# Altium footprint library smartcar_lib.PcbLib: 126 footprints (part 1 of 8)
Each footprint in its own frame and in the unit in brackets; x right, y up, seen from the top. Pads: shape width x height; smd on the part's side, far side on the other; paste and mask are expansions set on the pad; w line width, h text height; cw(c..) or ccw(c..) is an arc to the next point about the centre after c.
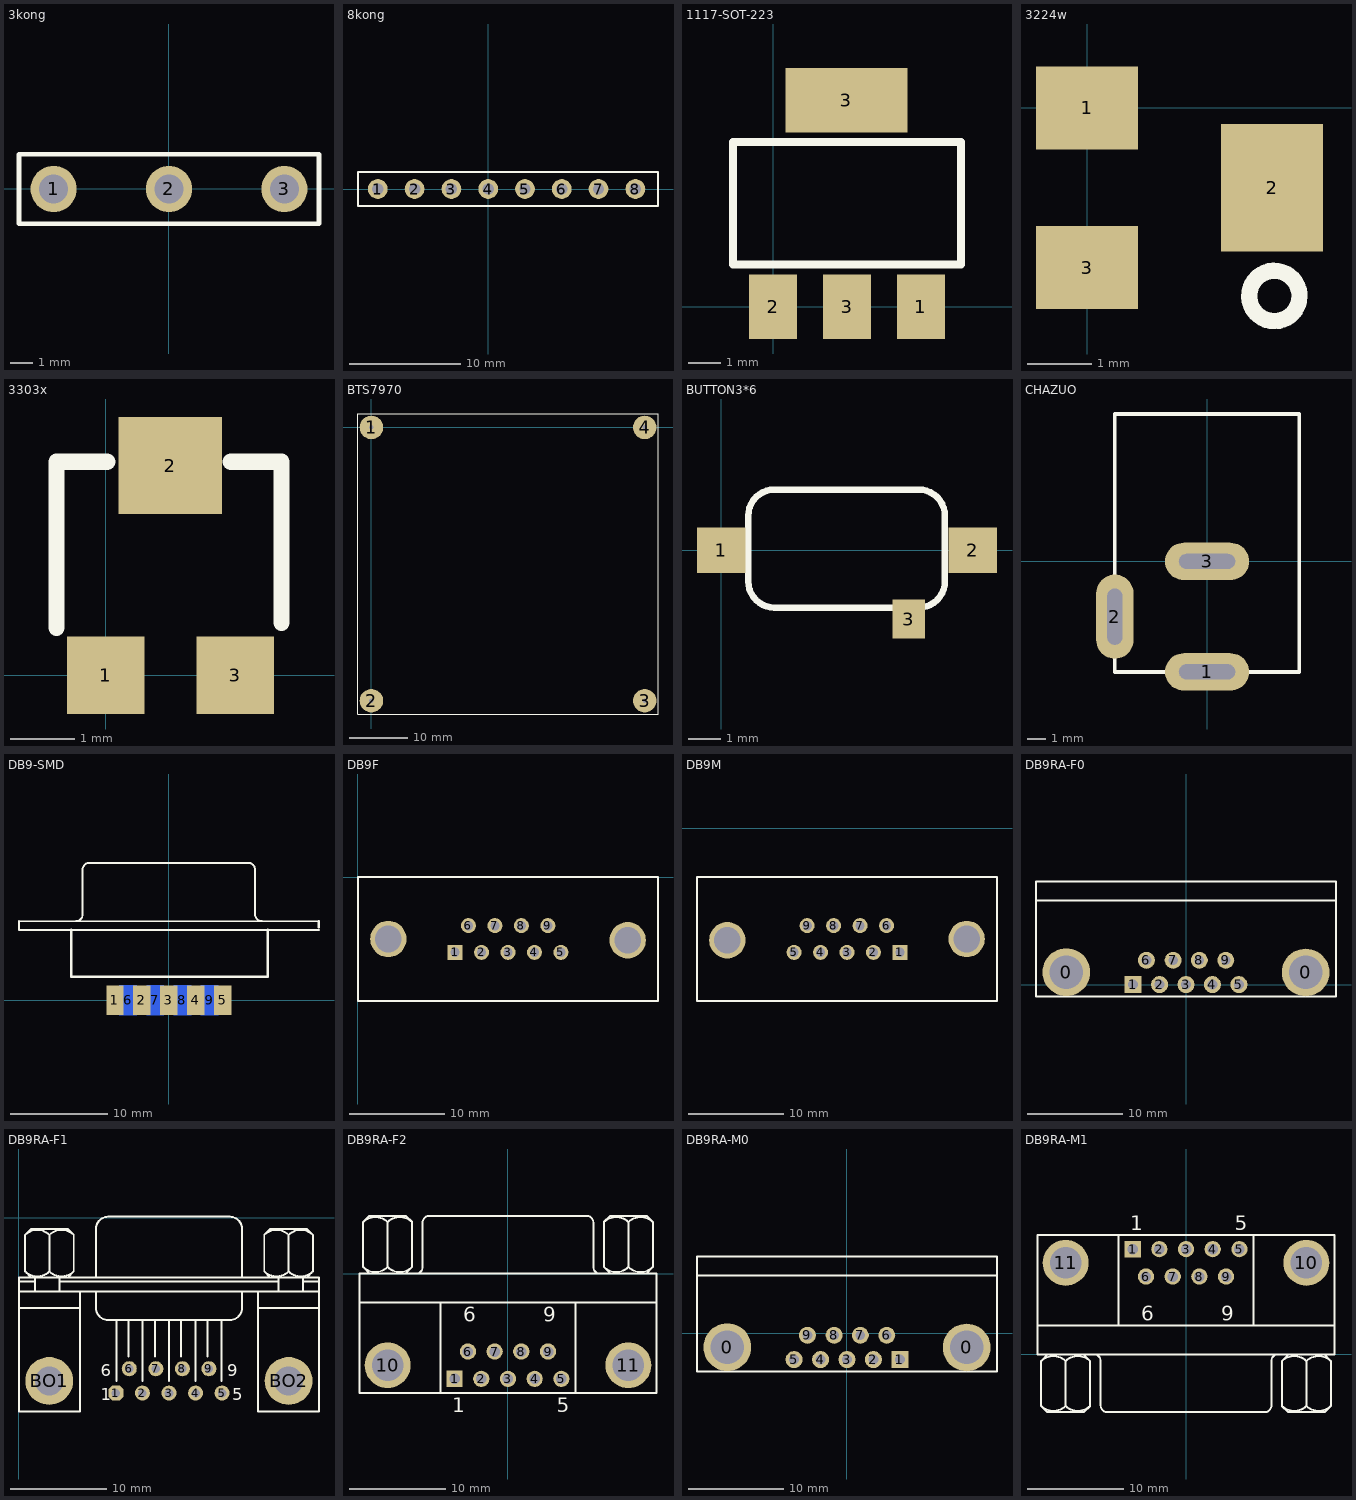
[diagram p0: the footprints below, top view; thin cyan lines are the x and y axes]

## 3kong [mil]
pads (3):
  round 80 hole 50: 1(-200,0) 2(0,0) 3(200,0)
Top Overlay:
  lines w8: -260,-60 -260,60 260,60 260,-60 -260,-60

## 8kong [mil]
pads (8):
  round 70 hole 40: 1(-390,0) 2(-260,0) 3(-130,0) 4(0,0) 5(130,0) 6(260,0) 7(390,0) 8(520,0)
Top Overlay:
  lines w8: -460,-60 580,-60 600,-60 600,60 -460,60 -460,-60

## 1117-SOT-223 [mil]
pads (4):
  rect 59x79 smd: 1(181.1,0) 2(0,0) 3(90.55,0)
  rect 150x79 smd: 3(89.88,253.54)
Top Overlay:
  lines w10: -49.45,52 -49.45,202 230.55,202 230.55,52 -49.45,52

## 3224w [mm]
pads (3):
  rect 1.6x1.3 smd: 1(0,0) 3(0,-2.5)
  rect 1.6x2 smd: 2(2.9,-1.25)
Top Overlay:
  lines w0.254: 3.327,-2.921 ccw(c2.934,-2.945) 3.328,-2.947

## 3303x [mm]
pads (3):
  rect 1.2x1.2 smd: 1(0,0) 3(2,0)
  rect 1.6x1.5 smd: 2(1,3.24)
Top Overlay:
  lines w0.254: -0.762,0.737 -0.762,3.302 0.025,3.302 ; 1.93,3.302 2.718,3.302 2.718,0.813

## BTS7970 [mm]
pads (4):
  round 4 hole 0.762: 1(0,0) 2(0,-46.5) 3(46.5,-46.5) 4(46.5,0)
Top Overlay:
  lines w0.203: -2.286,-48.768 -2.286,2.286 48.768,2.286 48.768,-48.768 -2.286,-48.768

## BUTTON3*6 [mm]
pads (4):
  rect 1.5x1.4 smd: 1(0,0) 2(7.8,0)
  rect 1x1.2 smd: 3(5.817,-2.134)
  rrect50% 2.6x1.3 on Top Overlay: ""(3.962,0.025)
Top Overlay:
  lines w0.203: 0.838,-0.965 ccw(c1.651,-0.965) 1.651,-1.778 6.121,-1.778 ccw(c6.121,-0.965) 6.934,-0.965 6.934,1.041 ; 0.838,-0.94 0.838,1.067 cw(c1.651,1.067) 1.651,1.88 6.121,1.88 cw(c6.121,1.067) 6.934,1.067

## CHAZUO [mil]
pads (3):
  oval 180x80 hole 32.01 slot 120 at 0 deg: 1(-0.02,-236) 3(-0.02,-0.01)
  oval 80x180 hole 32.01 slot 120 at 90 deg: 2(-197.03,-118.01)
Top Overlay:
  lines w8: -39,-236 197,-236 197,315 -197,315 -197,-236 0,-236

## DB9-SMD [mil]
height 100
pads (9):
  rect 70x120 smd: 1(-218.11,-0.04) 2(-109.05,-0.04) 3(0,-0.04) 4(109.06,-0.04) 5(218.11,-0.04)
  rect 70x120 smd far side: 6(-165,0.04) 7(-55,0.04) 8(55,0.04) 9(165,0.04)
Top Overlay:
  lines w7.87: -606.3,320.04 606.3,320.04 ; -605,285.04 607.6,285.04 ; -376.38,320.24 ccw(c-376.38,347.6) -349.02,347.6 -349.02,528.7 ; -348.82,528.9 cw(c-321.46,528.9) -321.46,556.26 321.46,556.26 cw(c321.46,528.9) 348.82,528.9 ; 349.02,528.7 349.02,347.6 ccw(c376.38,347.6) 376.38,320.24
  lines w10: -606.3,320.04 -606.3,286.34 -605,285.04 ; -395,285.04 -395,95.04 400,95.04 400,285.04 ; 606.3,320.04 606.3,296.34 607.6,295.04

## DB9F [mil]
pads (11):
  rect 62x62 hole 38: 1(401,-310)
  round 62 hole 38: 2(510,-310) 3(619,-310) 4(728,-310) 5(837,-310) 6(456,-200) 7(565,-200) 8(674,-200) 9(783,-200)
  round 150 hole 110: ""(126,-255) ""(1112,-260)
Top Overlay:
  lines w8: 1,-510 1,0 1237,0 1237,-510 1,-510

## DB9M [mil]
pads (11):
  rect 62x62 hole 38: 1(1038,-512)
  round 62 hole 38: 2(929,-512) 3(820,-512) 4(711,-512) 5(602,-512) 6(983,-402) 7(874,-402) 8(765,-402) 9(656,-402)
  round 150 hole 110: ""(327,-462) ""(1313,-457)
Top Overlay:
  lines w8: 202,-712 1438,-712 1438,-202 202,-202 202,-712

## DB9RA-F0 [mil]
pads (11):
  round 196.85 hole 137.79: 0(-493,51) 0(493,50)
  rect 70x70 hole 40: 1(-218,0)
  round 70 hole 40: 2(-109,0) 3(0,0) 4(109,0) 5(218,0) 6(-163,100) 7(-53,100) 8(55,100) 9(164,100)
Top Overlay:
  lines w8: -618,346.26 618,346.26 ; -618,-49.35 618,-49.35 618,425 -618,425 -618,-49.35

## DB9RA-F1 [mil]
height 100
pads (11):
  oct 62x62 hole 35: 1(400.26,-720.47)
  round 62 hole 35: 2(509.43,-720.47) 3(618.59,-720.47) 4(727.76,-720.47) 5(836.93,-720.47) 6(455.26,-620.47) 7(564.43,-620.47) 8(673.59,-620.47) 9(782.76,-620.47)
  round 196.67 hole 118.33: BO1(126.09,-670.47) BO2(1110.26,-670.47)
Top Overlay:
  lines w8: 1.93,-370.46 251.93,-370.46 ; 1.93,-303.8 1235.26,-303.8 ; 1.93,-262.13 68.59,-262.13 ; 26.84,-220.55 ccw(c76.93,-170.47) 127.01,-220.55 ; 26.84,-70.38 cw(c76.93,-120.47) 127.01,-70.38 ; 51.93,-245.47 26.93,-220.47 26.93,-70.47 51.93,-45.47 201.93,-45.47 226.93,-70.47 226.93,-220.47 201.93,-245.47 ; 68.59,-303.8 68.59,-245.47 ; 126.84,-220.55 ccw(c176.93,-170.47) 227.01,-220.55 ; 126.84,-70.38 cw(c176.93,-120.47) 227.01,-70.38 ; 126.93,-220.47 126.93,-70.47 ; 168.59,-303.8 168.59,-245.47 ; 168.59,-262.13 1068.59,-262.13 ; 251.93,-303.8 251.93,-795.47 1.93,-795.47 1.93,-245.47 1235.26,-245.47 1235.26,-795.47 985.26,-795.47 985.26,-303.8 ; 318.59,-303.8 318.59,-370.46 ccw(c368.59,-370.46) 368.59,-420.46 868.59,-420.46 ccw(c868.59,-370.46) 918.59,-370.46 918.59,-303.8 ; 318.59,-245.47 318.59,-45.47 cw(c368.59,-45.47) 368.59,4.53 868.59,4.54 cw(c868.59,-45.47) 918.59,-45.47 918.59,-245.47 ; 401.93,-670.47 401.93,-420.46 ; 451.93,-570.47 451.93,-420.46 ; 510.26,-670.47 510.26,-420.46 ; 560.26,-570.47 560.26,-420.46 ; 618.59,-670.47 618.59,-420.46 ; 668.59,-570.47 668.59,-420.46 ; 726.93,-670.47 726.93,-420.46 ; 776.93,-570.47 776.93,-420.46 ; 835.26,-670.47 835.26,-420.46 ; 985.26,-370.46 1235.26,-370.46 ; 1010.17,-220.55 ccw(c1060.26,-170.47) 1110.35,-220.55 ; 1010.17,-70.38 cw(c1060.26,-120.47) 1110.35,-70.38 ; 1035.26,-245.47 1010.26,-220.47 1010.26,-70.47 1035.26,-45.47 1185.26,-45.47 1210.26,-70.47 1210.26,-220.47 1185.26,-245.47 ; 1068.59,-303.8 1068.59,-245.47 ; 1110.17,-220.55 ccw(c1160.26,-170.47) 1210.35,-220.55 ; 1110.17,-70.38 cw(c1160.26,-120.47) 1210.35,-70.38 ; 1110.26,-220.47 1110.26,-70.47 ; 1168.59,-303.8 1168.59,-245.47 ; 1168.59,-262.13 1235.26,-262.13
  text "6" at 338.59,-650.47 h50
  text "1" at 338.59,-750.47 h50
  text "5" at 878.59,-750.47 h50
  text "9" at 858.59,-650.47 h50

## DB9RA-F2 [mm] "Connector; D Subminiature AMPLIMITE 2000; 9 Position; Right Angle"
height 12.75
pads (11):
  rect 1.69x1.69 hole 1.09: 1(-5.54,-10.92)
  round 1.69 hole 1.09: 2(-2.77,-10.92) 3(0,-10.92) 4(2.77,-10.92) 5(5.54,-10.92) 6(-4.155,-8.08) 7(-1.385,-8.08) 8(1.385,-8.08) 9(4.155,-8.08)
  round 4.76 hole 3.26: 10(-12.495,-9.5) 11(12.495,-9.5)
Top Overlay:
  lines w0.2: -15.4,-3 15.4,-3 ; -15.038,5.35 -15.038,0.699 -14.403,0.064 ; -15.038,5.365 -14.403,6 -10.593,6 -9.958,5.365 ; -12.498,0.699 -12.498,5.35 ; -10.593,0.064 -9.958,0.699 -9.958,5.35 ; -9.958,4.086 -9.958,4.298 ; -9.56,0.005 ccw(c-9.56,0.7) -8.865,0.7 -8.865,5.3 ; -8.86,5.305 cw(c-8.165,5.305) -8.165,6 8.165,6 cw(c8.165,5.305) 8.86,5.305 ; -7,-12.4 -7,-3 ; 7,-12.4 7,-3 ; 8.865,5.3 8.865,0.7 ccw(c9.56,0.7) 9.56,0.005 ; 9.962,5.35 9.962,0.699 10.597,0.064 ; 9.962,5.365 10.597,6 14.407,6 15.042,5.365 ; 12.502,0.699 12.502,5.35 ; 14.407,0.064 15.042,0.699 15.042,5.35 ; 15.042,4.086 15.042,4.298 ; -15.4,-12.4 15.4,-12.4 15.4,0 -15.4,0 -15.4,-12.4
  lines w0.203: -15.04,0.697 ccw(c-13.768,1.969) -12.496,0.697 ; -15.038,5.35 cw(c-13.766,4.078) -12.493,5.35 ; -12.502,5.35 cw(c-11.23,4.078) -9.958,5.35 ; -12.5,0.697 ccw(c-11.228,1.969) -9.956,0.697 ; 9.96,0.697 ccw(c11.232,1.969) 12.504,0.697 ; 9.962,5.35 cw(c11.234,4.078) 12.507,5.35 ; 12.498,5.35 cw(c13.77,4.078) 15.042,5.35 ; 12.5,0.697 ccw(c13.772,1.969) 15.044,0.697
  text "6" at -4.655,-4.975 h1.5
  text "9" at 3.655,-4.975 h1.5
  text "5" at 5.04,-14.375 h1.5
  text "1" at -5.79,-14.375 h1.5

## DB9RA-M0 [mil]
height 100
pads (11):
  round 196.85 hole 137.79: 0(-492,-58) 0(494,-59)
  rect 70x70 hole 40: 1(219,-109)
  round 70 hole 40: 2(110,-109) 3(1,-109) 4(-108,-109) 5(-217,-109) 6(165,-9) 7(56,-9) 8(-52,-9) 9(-162,-9)
Top Overlay:
  lines w8: -617,237.26 619,237.26 ; -617,-158.35 619,-158.35 619,316 -617,316 -617,-158.35

## DB9RA-M1 [mm] "Connector; D Subminiature AMPLIMITE 2000; 9 Position; Right Angle"
height 12.75
pads (11):
  rect 1.69x1.69 hole 1.09: 1(-5.54,10.92)
  round 1.69 hole 1.09: 2(-2.77,10.92) 3(0,10.92) 4(2.77,10.92) 5(5.54,10.92) 6(-4.155,8.08) 7(-1.385,8.08) 8(1.385,8.08) 9(4.155,8.08)
  round 4.76 hole 3.26: 10(12.495,9.5) 11(-12.495,9.5)
Top Overlay:
  lines w0.2: -15.4,3 15.4,3 ; -15.042,-5.365 -14.407,-6 -10.597,-6 -9.962,-5.365 ; -15.042,-5.35 -15.042,-0.699 -14.407,-0.064 ; -15.042,-4.298 -15.042,-4.086 ; -12.502,-5.35 -12.502,-0.699 ; -10.597,-0.064 -9.962,-0.699 -9.962,-5.35 ; -9.56,-0.005 cw(c-9.56,-0.7) -8.865,-0.7 -8.865,-5.3 ; -8.86,-5.305 ccw(c-8.165,-5.305) -8.165,-6 8.165,-6 ccw(c8.165,-5.305) 8.86,-5.305 ; -7,3 -7,12.4 ; 7,3 7,12.4 ; 8.865,-5.3 8.865,-0.7 cw(c9.56,-0.7) 9.56,-0.005 ; 9.958,-5.365 10.593,-6 14.403,-6 15.038,-5.365 ; 9.958,-5.35 9.958,-0.699 10.593,-0.064 ; 9.958,-4.298 9.958,-4.086 ; 12.498,-5.35 12.498,-0.699 ; 14.403,-0.064 15.038,-0.699 15.038,-5.35 ; -15.4,0 15.4,0 15.4,12.4 -15.4,12.4 -15.4,0
  lines w0.203: -15.044,-0.697 cw(c-13.772,-1.969) -12.5,-0.697 ; -15.042,-5.35 ccw(c-13.77,-4.078) -12.498,-5.35 ; -12.507,-5.35 ccw(c-11.234,-4.078) -9.962,-5.35 ; -12.504,-0.697 cw(c-11.232,-1.969) -9.96,-0.697 ; 9.956,-0.697 cw(c11.228,-1.969) 12.5,-0.697 ; 9.958,-5.35 ccw(c11.23,-4.078) 12.502,-5.35 ; 12.493,-5.35 ccw(c13.766,-4.078) 15.038,-5.35 ; 12.496,-0.697 cw(c13.768,-1.969) 15.04,-0.697
  text "9" at 3.655,3.48 h1.5
  text "5" at 5.04,12.88 h1.5
  text "1" at -5.79,12.88 h1.5
  text "6" at -4.655,3.48 h1.5